# Altium footprint library 009159010061911.PcbLib: 1 footprints
Each footprint in its own frame and in the unit in brackets; x right, y up, seen from the top. Pads: shape width x height; smd on the part's side, far side on the other; paste and mask are expansions set on the pad; w line width, h text height; cw(c..) or ccw(c..) is an arc to the next point about the centre after c.
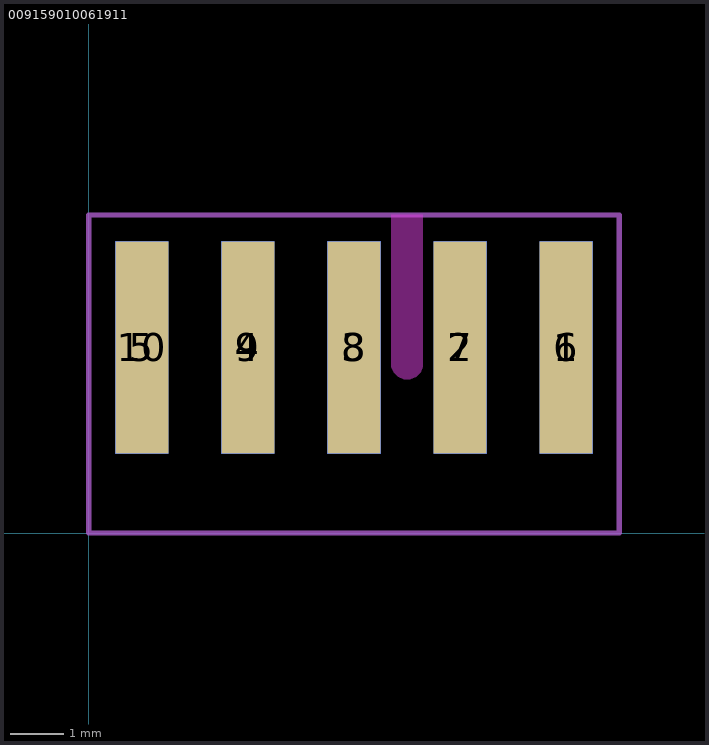
[diagram p0: the footprint, top view; thin cyan lines are the x and y axes]

## 009159010061911 [mm]
pads (10):
  rect 1x4 smd: 1(9,3.5) 2(7,3.5) 3(5,3.5) 4(3,3.5) 5(1,3.5)
  rect 1x4 smd far side: 6(9,3.5) 7(7,3.5) 8(5,3.5) 9(3,3.5) 10(1,3.5)
Keep-Out Layer:
  board cut-out: 5.7,6 6.3,6 6.3,3.2 6.3,3.14 6.254,3.03 6.17,2.946 6.06,2.9 5.94,2.9 5.83,2.946 5.746,3.03 5.7,3.14 5.7,3.2
Mechanical 1:
  lines w0.1: 0,0 10,0 10,6 0,6 0,0